# Altium footprint library FF450R12ME4.PCBLIB: 1 footprints
Each footprint in its own frame and in the unit in brackets; x right, y up, seen from the top. Pads: shape width x height; smd on the part's side, far side on the other; paste and mask are expansions set on the pad; w line width, h text height; cw(c..) or ccw(c..) is an arc to the next point about the centre after c.
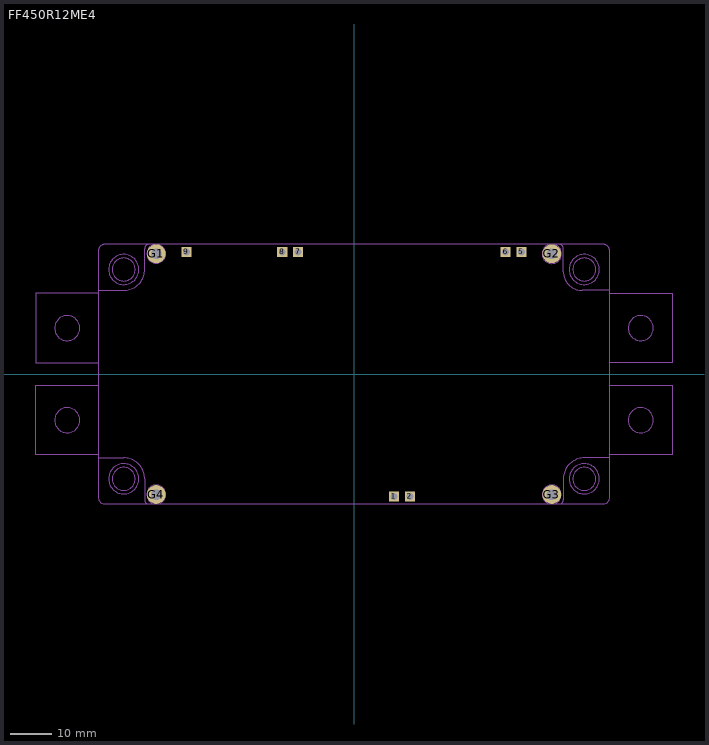
[diagram p0: the footprint, top view; thin cyan lines are the x and y axes]

## FF450R12ME4 [mm]
pads (11):
  rect 2.396x2.396 / inner rect 1.524x1.524 / far side rect 2.396x2.396 hole 1.65: 1(9.52,-29.2) 2(13.33,-29.2) 5(40,29.2) 6(36.19,29.2) 7(-13.34,29.2) 8(-17.14,29.2) 9(-40.01,29.2)
  round 4.5 / inner round 1.524 / far side round 4.5 hole 2.5: G1(-47.25,28.75) G2(47.25,28.75) G3(47.25,-28.75) G4(-47.25,-28.75)
Mechanical 8:
  circle w0.127: c68.5,11 r3
  circle w0.127: c68.5,-11 r3
  circle w0.127: c-68.5,11 r3
  circle w0.127: c-68.5,-11 r3
  circle w0.127: c55,25 r2.75
  circle w0.127: c55,25 r3.606
  circle w0.127: c55,-25 r2.75
  circle w0.127: c55,-25 r3.606
  circle w0.127: c-55,-25 r2.75
  circle w0.127: c-55,-25 r3.606
  circle w0.127: c-55,25 r2.75
  circle w0.127: c-55,25 r3.606
  circle w0.127: c47.25,28.75 r2.325
  circle w0.127: c47.25,28.75 r1.118
  circle w0.127: c47.25,-28.75 r2.25
  circle w0.127: c47.25,-28.75 r1.118
  circle w0.127: c-47.25,-28.75 r2.25
  circle w0.127: c-47.25,-28.75 r1.118
  circle w0.127: c-47.25,28.75 r2.25
  circle w0.127: c-47.25,28.75 r1.118
  lines w0.127: -61,-20 -55,-20 cw(c-55,-25) -50,-25 -50,-30 ccw(c-49,-30) -49,-31 ; -61,20 -55,20 ccw(c-55,25) -50,25 -50,30 cw(c-49,30) -49,31 ; 61,-20 55,-20 ccw(c55,-25.023) 50,-25.5 50,-30 cw(c49,-30) 49,-31 ; 61,20 54.5,20 cw(c54.5,24.5) 50,24.5 50,30 ccw(c49,30) 49,31 ; -61.05,-19.3 -61.05,-2.7 ; -61.05,-19.3 -61.05,-29.5 ccw(c-59.55,-29.5) -59.55,-31 -49,-31 ; -61.05,-19.3 -76,-19.3 -76,-2.7 -61.05,-2.7 ; -61.05,-2.7 -61.05,2.7 ; -61.05,2.7 -61.05,19.3 ; -61.05,2.7 -76,2.7 -76,19.3 -61.05,19.3 ; -61.05,19.3 -61.05,29.5 cw(c-59.55,29.5) -59.55,31 -49,31 ; -49,-31 49,-31 ; -49,31 49,31 ; 49,-31 59.55,-31 ccw(c59.55,-29.5) 61.05,-29.5 61.05,-19.3 ; 49,31 59.55,31 cw(c59.55,29.5) 61.05,29.5 61.05,19.3 ; 61.05,-19.3 61.05,-2.7 ; 61.05,-19.3 76,-19.3 76,-2.7 61.05,-2.7 ; 61.05,-2.7 61.05,2.7 ; 61.05,2.7 61.05,19.3 ; 61.05,2.7 76,2.7 76,19.3 61.05,19.3